# EAGLE library part EMBEDDED_SUBSYSTEM_V2 (library 000_CustomPartsMaster)
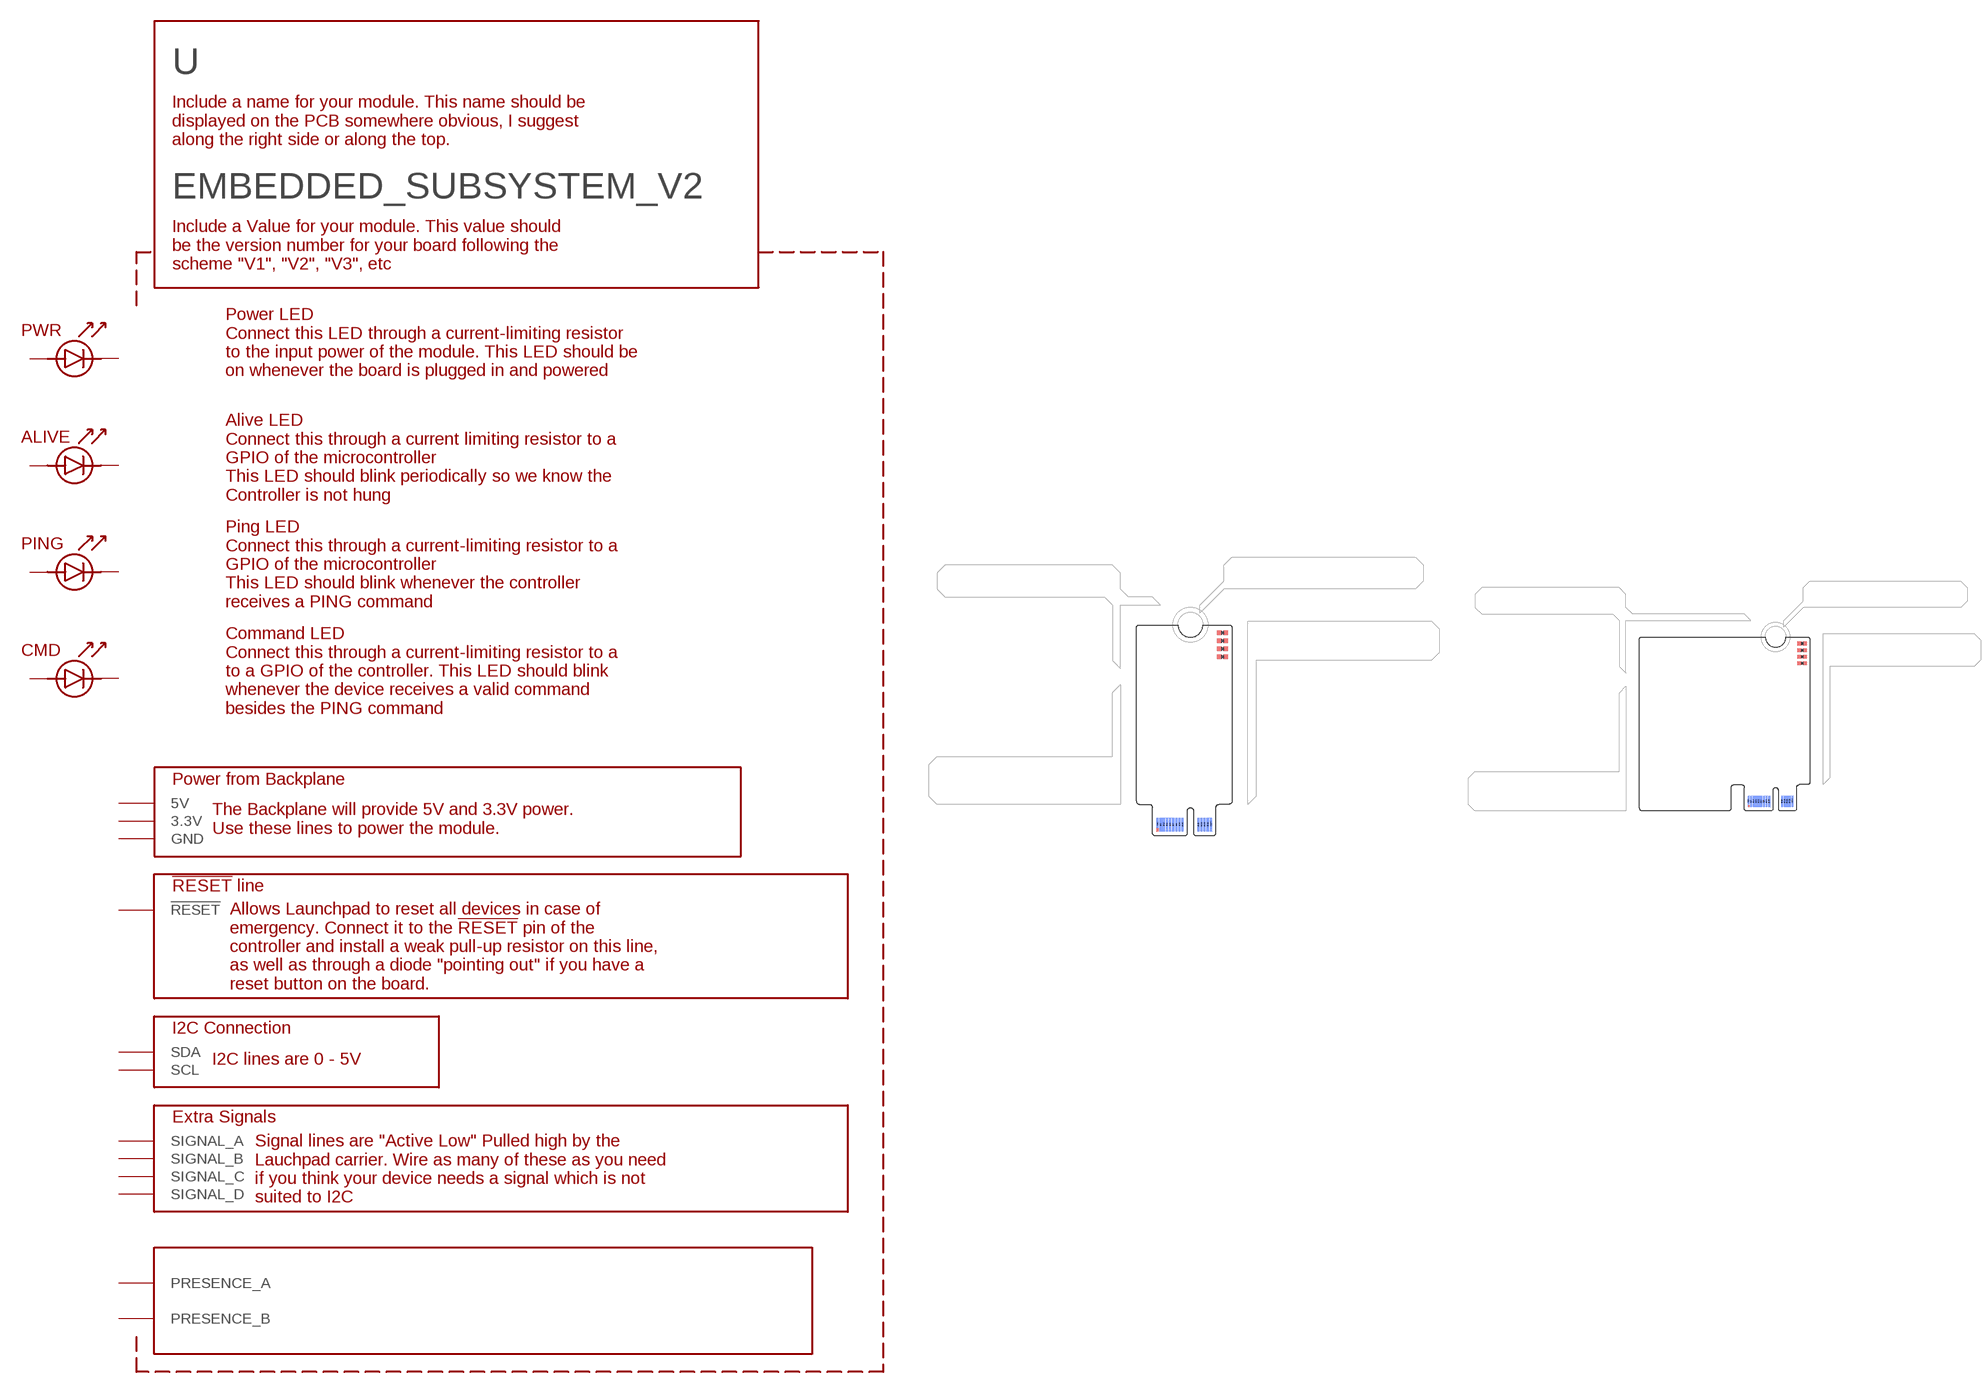
[diagram p9: symbol with the pads of SUBSYSTEM2016_V2-SMALL; footprints SUBSYSTEM2016_V2-SMALL, SUBSYSTEM2016_V2-LARGE]

Designator prefix -

## EMBEDDED_SUBSYSTEM_V2SMALL  [SUBSYSTEM2016_V2-SMALL]
A2  PRESENCE_A  nc
A3  3.3V
A4  3.3V
A7  GND
A8  GND
A9  GND
A10  GND
A13  SIGNAL_C
A14  SIGNAL_C
A15  SIGNAL_D
A16  SIGNAL_D
ALIVELED_ANODE  ALIVELED_ANODE
ALIVELED_CATHODE  ALIVELED_CATHODE
B2  5V
B3  5V
B5  !RESET
B6  !RESET
B7  SDA
B8  SDA
B9  SCL
B10  SCL
B13  SIGNAL_A
B14  SIGNAL_A
B15  SIGNAL_B
B16  SIGNAL_B
B17  PRESENCE_B
CMDLED_ANODE  CMDLED_ANODE
CMDLED_CATHODE  CMDLED_CATHODE
PINGLED_ANODE  PINGLED_ANODE
PINGLED_CATHODE  PINGLED_CATHODE
PWRLED_ANODE  PWRLED_ANODE
PWRLED_CATHODE  PWRLED_CATHODE

## EMBEDDED_SUBSYSTEM_V2  [SUBSYSTEM2016_V2-LARGE]
Pads as for SUBSYSTEM2016_V2-SMALL

## EMBEDDED_SUBSYSTEM_V2MEDIUM  [SUBSYSTEM2016_V2-MEDIUM]
Pads as for SUBSYSTEM2016_V2-SMALL

## Footprint SUBSYSTEM2016_V2-SMALL (pad centres in mm)
smd 0.7 x 3.2 bottom: A2 6.73,4.16
smd 0.7 x 4.2 bottom: A3 7.73,3.66; A4 8.73,3.66; A5 9.73,3.66; A6 10.73,3.66; A7 11.73,3.66; A8 12.73,3.66; A9 13.73,3.66; A10 14.73,3.66; A13 19.73,3.66; A14 20.73,3.66; A15 21.73,3.66; A16 22.73,3.66; A17 23.73,3.66
smd 1.45 x 1.4: ALIVELED_ANODE 26.382,62.23; ALIVELED_CATHODE 28.482,62.23; CMDLED_ANODE 26.382,57.15; CMDLED_CATHODE 28.482,57.15; PINGLED_ANODE 26.382,59.69; PINGLED_CATHODE 28.482,59.69; PWRLED_ANODE 26.382,64.77; PWRLED_CATHODE 28.482,64.77
smd 0.7 x 4.2: B2 6.73,3.66; B3 7.73,3.66; B4 8.73,3.66; B5 9.73,3.66; B6 10.73,3.66; B7 11.73,3.66; B8 12.73,3.66; B9 13.73,3.66; B10 14.73,3.66; B13 19.73,3.66; B14 20.73,3.66; B15 21.73,3.66; B16 22.73,3.66
smd 0.7 x 3.2: B17 23.73,4.16

## Footprint SUBSYSTEM2016_V2-LARGE (pad centres in mm)
smd 0.7 x 3.2 bottom: A2 42.29,4.16
smd 0.7 x 4.2 bottom: A3 43.29,3.66; A4 44.29,3.66; A5 45.29,3.66; A6 46.29,3.66; A7 47.29,3.66; A8 48.29,3.66; A9 49.29,3.66; A10 50.29,3.66; A13 55.29,3.66; A14 56.29,3.66; A15 57.29,3.66; A16 58.29,3.66; A17 59.29,3.66
smd 1.45 x 1.4: ALIVELED_ANODE 61.942,62.23; ALIVELED_CATHODE 64.042,62.23; CMDLED_ANODE 61.942,57.15; CMDLED_CATHODE 64.042,57.15; PINGLED_ANODE 61.942,59.69; PINGLED_CATHODE 64.042,59.69; PWRLED_ANODE 61.942,64.77; PWRLED_CATHODE 64.042,64.77
smd 0.7 x 4.2: B2 42.29,3.66; B3 43.29,3.66; B4 44.29,3.66; B5 45.29,3.66; B6 46.29,3.66; B7 47.29,3.66; B8 48.29,3.66; B9 49.29,3.66; B10 50.29,3.66; B13 55.29,3.66; B14 56.29,3.66; B15 57.29,3.66; B16 58.29,3.66
smd 0.7 x 3.2: B17 59.29,4.16

## Footprint SUBSYSTEM2016_V2-MEDIUM (pad centres in mm)
smd 0.7 x 3.2 bottom: A2 42.29,4.16
smd 0.7 x 4.2 bottom: A3 43.29,3.66; A4 44.29,3.66; A5 45.29,3.66; A6 46.29,3.66; A7 47.29,3.66; A8 48.29,3.66; A9 49.29,3.66; A10 50.29,3.66; A13 55.29,3.66; A14 56.29,3.66; A15 57.29,3.66; A16 58.29,3.66; A17 59.29,3.66
smd 1.45 x 1.4: ALIVELED_ANODE 64.042,62.23; ALIVELED_CATHODE 61.942,62.23; CMDLED_ANODE 64.042,57.15; CMDLED_CATHODE 61.942,57.15; PINGLED_ANODE 64.042,59.69; PINGLED_CATHODE 61.942,59.69; PWRLED_ANODE 64.042,64.77; PWRLED_CATHODE 61.942,64.77
smd 0.7 x 4.2: B2 42.29,3.66; B3 43.29,3.66; B4 44.29,3.66; B5 45.29,3.66; B6 46.29,3.66; B7 47.29,3.66; B8 48.29,3.66; B9 49.29,3.66; B10 50.29,3.66; B13 55.29,3.66; B14 56.29,3.66; B15 57.29,3.66; B16 58.29,3.66
smd 0.7 x 3.2: B17 59.29,4.16